# Altium footprint library CON SFM-120-02-x-D.PcbLib: 1 footprints
Each footprint in its own frame and in the unit in brackets; x right, y up, seen from the top. Pads: shape width x height; smd on the part's side, far side on the other; paste and mask are expansions set on the pad; w line width, h text height; cw(c..) or ccw(c..) is an arc to the next point about the centre after c.
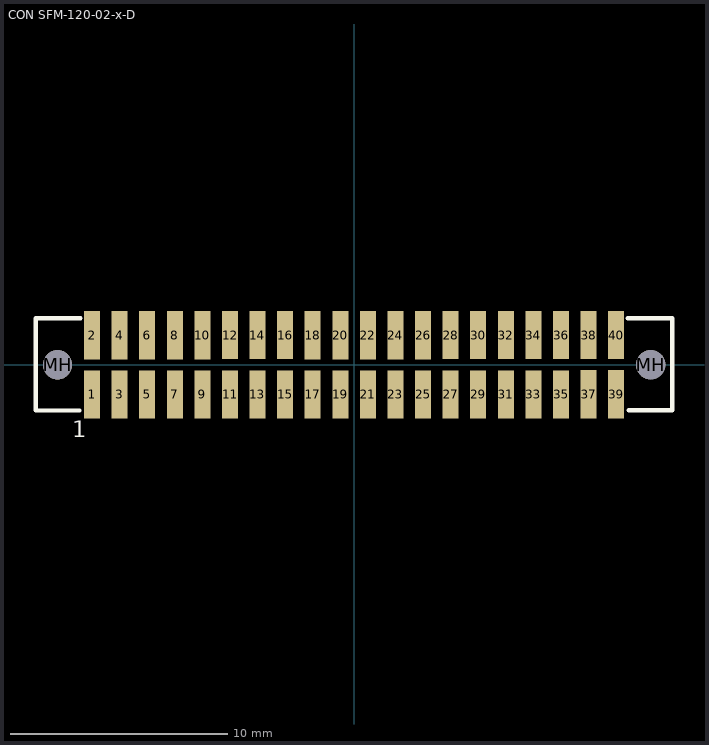
[diagram p0: the footprint, top view; thin cyan lines are the x and y axes]

## CON SFM-120-02-x-D [mil] "Samtec CON SFM-120-02-x-D Surface Mount Connector"
pads (42):
  rect 29x87.5 smd: 1(-475.07,-53.81) 2(-475.07,53.69) 3(-425.07,-53.81) 4(-425.07,53.69) 5(-375.07,-53.81) 6(-375.07,53.69) 7(-325.07,-53.81) 8(-325.07,53.69) 9(-275.07,-53.81) 10(-275.07,53.69) 11(-224.93,-53.75) 12(-224.93,53.75) 13(-175.2,-53.75) 14(-175.2,53.75) 15(-124.99,-53.75) 16(-124.99,53.75) 17(-75.07,-53.81) 18(-75.07,53.69) 19(-25.07,-53.81) 20(-25.07,53.69) 21(24.93,-53.81) 22(24.93,53.69) 23(74.93,-53.81) 24(74.93,53.69) 25(124.93,-53.81) 26(124.93,53.69) 27(175.07,-53.75) 28(175.07,53.75) 29(224.8,-53.75) 30(224.8,53.75) 31(275.07,-53.75) 32(275.07,53.75) 33(325.07,-53.75) 34(325.07,53.75) 35(375.07,-53.75) 36(375.07,53.75) 37(425.21,-53.69) 38(425.21,53.81) 39(474.94,-53.69) 40(474.94,53.81)
  round 53 hole 53 unplated: MH(-537.57,-0.06) MH(537.57,0)
TopOverlay:
  lines w8: -497.74,-83.02 -576.56,-83.02 -576.92,-82.66 -576.92,84.42 -495.92,84.42 ; 496.27,84.49 576.18,84.49 576.54,84.12 576.54,-82.59 498.08,-82.59
  text "1" at -511.21,-131.13 h30
3D body: height 185.6, standoff -44.4, extent -577.5,-82.5 577.5,85